# Altium integrated library Maxim Amplifiers and Comparators.IntLib: 420 symbols (part 12 of 16)
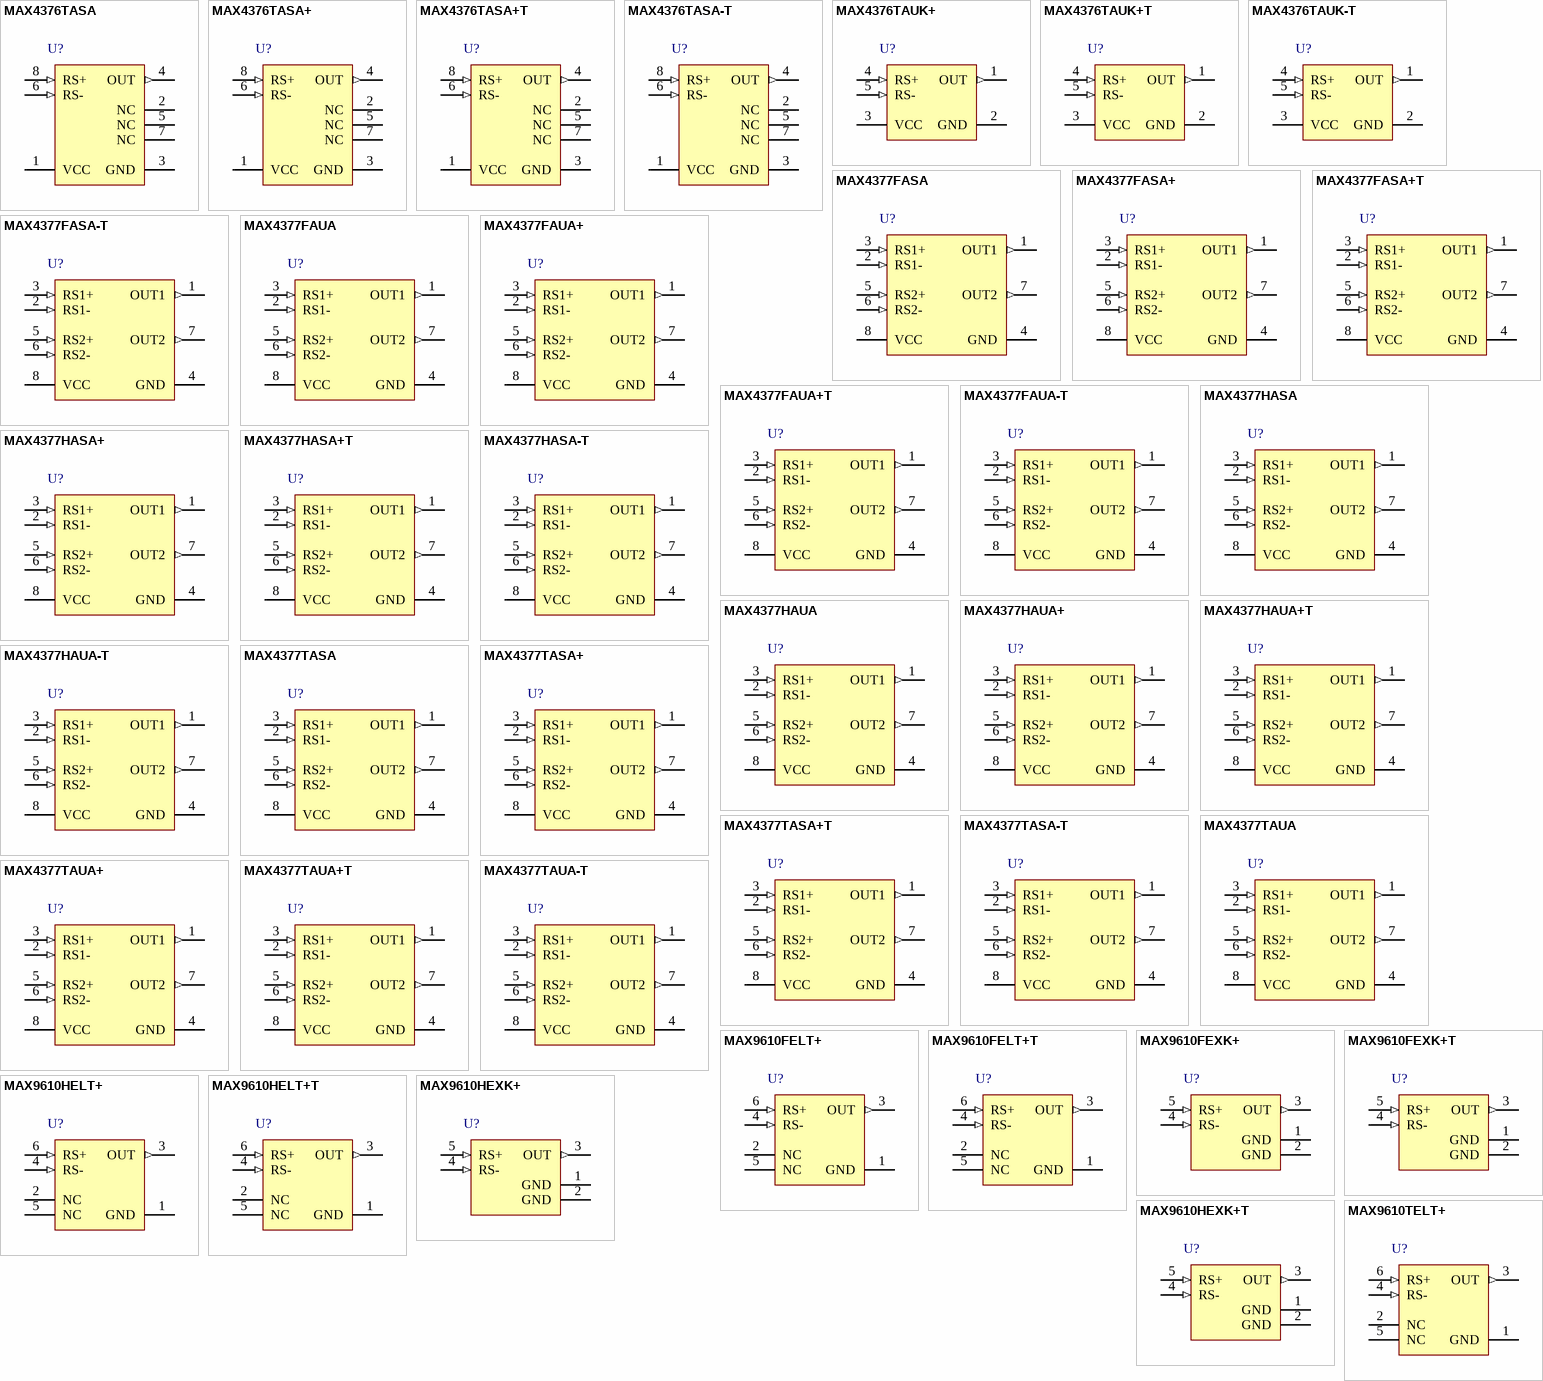
[diagram p21: symbols MAX4376TASA to MAX9610TELT+]

## MAX4377FASA
designator U?
Dual High-Side Current Sense Amplifier, 50 V / V Gain, -40 to 125 degC, 8-Pin SOIC (S8-2); PartNumber: MAX4377FASA; Bi-Dir. Curr. Sense: No; Gain: 20 V/V, 50 V/V ,100 V/V; Industry Qualified: Automotive - General; DatasheetVersion: Rev. 7; PackageVersion: Rev. D, 10/2012; PackageReference: S8-2; PackageDescription: 8-Pin Small-Outline IC, Narrow (0.15in) (S8-2), Body 4.90 x 3.90 mm, Pitch 1.27 mm; Supplier 1: Digi-Key; Supplier Part Number 1: MAX4377FASA-ND; Supplier 2: Mouser; Supplier Part Number 2: 700-MAX4377FASA-NR; Mounting Technology: Surface Mount; Code_JEDEC: MS012; ComponentLink1Description: Manufacturer URL; ComponentLink1URL: http://www.maximintegrated.com/; ComponentLink2Description: Datasheet; ComponentLink2URL: http://datasheets.maximintegrated.com/en/ds/MAX4376-MAX4378.pdf; ComponentLink3Description: Package Specification; ComponentLink3URL: http://pdfserv.maximintegrated.com/package_dwgs/21-0041.PDF
footprint MAXM-S8-2_N (SOIC, 8-Leads, Body 4.90x3.90mm, Pitch 1.27mm, IPC Medium Density)
footprint MAXM-S8-2_L (SOIC, 8-Leads, Body 4.90x3.90mm, Pitch 1.27mm, IPC High Density)
footprint MAXM-S8-2_M (SOIC, 8-Leads, Body 4.90x3.90mm, Pitch 1.27mm, IPC Low Density)
pins: 1 OUT1 (out) "Output Voltage. VOUT_ is proportional to the magnitude of the sense voltage (VRS+ - VRS-). VOUT_ is approximately zero when VRS - > VRS - + (no phase reversal).", 2 RS1- (in) "Load-side connection to the external sense resistor", 3 RS1+ (in) "Power connection to the external sense resistor", 4 GND (power) "Ground", 5 RS2+ (in) "Power connection to the external sense resistor", 6 RS2- (in) "Load-side connection to the external sense resistor", 7 OUT2 (out) "Output Voltage. VOUT_ is proportional to the magnitude of the sense voltage (VRS+ - VRS-). VOUT_ is approximately zero when VRS - > VRS - + (no phase reversal).", 8 VCC (power) "Supply Voltage"

## MAX4377FASA+
designator U?
Dual High-Side Current Sense Amplifier, 50 V / V Gain, -40 to 125 degC, 8-Pin SOIC (S8+2), Pb-Free; PartNumber: MAX4377FASA+; Bi-Dir. Curr. Sense: No; Gain: 20 V/V, 50 V/V ,100 V/V; Industry Qualified: Automotive - General; DatasheetVersion: Rev. 7; PackageVersion: Rev. D, 10/2012; PackageReference: S8+2; PackageDescription: 8-Pin Small-Outline IC, Narrow (0.15in) (S8+2), Body 4.90 x 3.90 mm, Pitch 1.27 mm; Supplier 1: Digi-Key; Supplier Part Number 1: MAX4377FASA+-ND; Supplier 2: Mouser; Supplier Part Number 2: 700-MAX4377FASA; Mounting Technology: Surface Mount; Code_JEDEC: MS012; ComponentLink1Description: Manufacturer URL; ComponentLink1URL: http://www.maximintegrated.com/; ComponentLink2Description: Datasheet; ComponentLink2URL: http://datasheets.maximintegrated.com/en/ds/MAX4376-MAX4378.pdf; ComponentLink3Description: Package Specification; ComponentLink3URL: http://pdfserv.maximintegrated.com/package_dwgs/21-0041.PDF
footprint MAXM-S8+2_N (SOIC, 8-Leads, Body 4.90x3.90mm, Pitch 1.27mm, IPC Medium Density)
footprint MAXM-S8+2_L (SOIC, 8-Leads, Body 4.90x3.90mm, Pitch 1.27mm, IPC High Density)
footprint MAXM-S8+2_M (SOIC, 8-Leads, Body 4.90x3.90mm, Pitch 1.27mm, IPC Low Density)
pins: 1 OUT1 (out) "Output Voltage. VOUT_ is proportional to the magnitude of the sense voltage (VRS+ - VRS-). VOUT_ is approximately zero when VRS - > VRS - + (no phase reversal).", 2 RS1- (in) "Load-side connection to the external sense resistor", 3 RS1+ (in) "Power connection to the external sense resistor", 4 GND (power) "Ground", 5 RS2+ (in) "Power connection to the external sense resistor", 6 RS2- (in) "Load-side connection to the external sense resistor", 7 OUT2 (out) "Output Voltage. VOUT_ is proportional to the magnitude of the sense voltage (VRS+ - VRS-). VOUT_ is approximately zero when VRS - > VRS - + (no phase reversal).", 8 VCC (power) "Supply Voltage"

## MAX4377FASA+T
designator U?
Dual High-Side Current Sense Amplifier, 50 V / V Gain, -40 to 125 degC, 8-Pin SOIC (S8+2), Pb-Free, Tape and Reel; PartNumber: MAX4377FASA+T; Bi-Dir. Curr. Sense: No; Gain: 20 V/V, 50 V/V ,100 V/V; Industry Qualified: Automotive - General; DatasheetVersion: Rev. 7; PackageVersion: Rev. D, 10/2012; PackageReference: S8+2; PackageDescription: 8-Pin Small-Outline IC, Narrow (0.15in) (S8+2), Body 4.90 x 3.90 mm, Pitch 1.27 mm; Supplier 1: Digi-Key; Supplier Part Number 1: MAX4377FASA+T-ND; Supplier 2: Mouser; Supplier Part Number 2: 700-MAX4377FASA+T; Mounting Technology: Surface Mount; Code_JEDEC: MS012; ComponentLink1Description: Manufacturer URL; ComponentLink1URL: http://www.maximintegrated.com/; ComponentLink2Description: Datasheet; ComponentLink2URL: http://datasheets.maximintegrated.com/en/ds/MAX4376-MAX4378.pdf; ComponentLink3Description: Package Specification; ComponentLink3URL: http://pdfserv.maximintegrated.com/package_dwgs/21-0041.PDF
footprint MAXM-S8+2_N (SOIC, 8-Leads, Body 4.90x3.90mm, Pitch 1.27mm, IPC Medium Density)
footprint MAXM-S8+2_L (SOIC, 8-Leads, Body 4.90x3.90mm, Pitch 1.27mm, IPC High Density)
footprint MAXM-S8+2_M (SOIC, 8-Leads, Body 4.90x3.90mm, Pitch 1.27mm, IPC Low Density)
pins: 1 OUT1 (out) "Output Voltage. VOUT_ is proportional to the magnitude of the sense voltage (VRS+ - VRS-). VOUT_ is approximately zero when VRS - > VRS - + (no phase reversal).", 2 RS1- (in) "Load-side connection to the external sense resistor", 3 RS1+ (in) "Power connection to the external sense resistor", 4 GND (power) "Ground", 5 RS2+ (in) "Power connection to the external sense resistor", 6 RS2- (in) "Load-side connection to the external sense resistor", 7 OUT2 (out) "Output Voltage. VOUT_ is proportional to the magnitude of the sense voltage (VRS+ - VRS-). VOUT_ is approximately zero when VRS - > VRS - + (no phase reversal).", 8 VCC (power) "Supply Voltage"

## MAX4377FASA-T
designator U?
Dual High-Side Current Sense Amplifier, 50 V / V Gain, -40 to 125 degC, 8-Pin SOIC (S8-2), Tape and Reel; PartNumber: MAX4377FASA-T; Bi-Dir. Curr. Sense: No; Gain: 20 V/V, 50 V/V ,100 V/V; Industry Qualified: Automotive - General; DatasheetVersion: Rev. 7; PackageVersion: Rev. D, 10/2012; PackageReference: S8-2; PackageDescription: 8-Pin Small-Outline IC, Narrow (0.15in) (S8-2), Body 4.90 x 3.90 mm, Pitch 1.27 mm; Supplier 1: Digi-Key; Supplier Part Number 1: MAX4377FASA-T-ND; Supplier 2: Mouser; Supplier Part Number 2: 700-MAX4377FASA-T-; Mounting Technology: Surface Mount; Code_JEDEC: MS012; ComponentLink1Description: Manufacturer URL; ComponentLink1URL: http://www.maximintegrated.com/; ComponentLink2Description: Datasheet; ComponentLink2URL: http://datasheets.maximintegrated.com/en/ds/MAX4376-MAX4378.pdf; ComponentLink3Description: Package Specification; ComponentLink3URL: http://pdfserv.maximintegrated.com/package_dwgs/21-0041.PDF
footprint MAXM-S8-2_N (SOIC, 8-Leads, Body 4.90x3.90mm, Pitch 1.27mm, IPC Medium Density)
footprint MAXM-S8-2_L (SOIC, 8-Leads, Body 4.90x3.90mm, Pitch 1.27mm, IPC High Density)
footprint MAXM-S8-2_M (SOIC, 8-Leads, Body 4.90x3.90mm, Pitch 1.27mm, IPC Low Density)
pins: 1 OUT1 (out) "Output Voltage. VOUT_ is proportional to the magnitude of the sense voltage (VRS+ - VRS-). VOUT_ is approximately zero when VRS - > VRS - + (no phase reversal).", 2 RS1- (in) "Load-side connection to the external sense resistor", 3 RS1+ (in) "Power connection to the external sense resistor", 4 GND (power) "Ground", 5 RS2+ (in) "Power connection to the external sense resistor", 6 RS2- (in) "Load-side connection to the external sense resistor", 7 OUT2 (out) "Output Voltage. VOUT_ is proportional to the magnitude of the sense voltage (VRS+ - VRS-). VOUT_ is approximately zero when VRS - > VRS - + (no phase reversal).", 8 VCC (power) "Supply Voltage"

## MAX4377FAUA
designator U?
Dual High-Side Current Sense Amplifier, 50 V / V Gain, -40 to 125 degC, 8-Pin SOP (U8-1); PartNumber: MAX4377FAUA; Bi-Dir. Curr. Sense: No; Gain: 20 V/V, 50 V/V ,100 V/V; Industry Qualified: Automotive - General; DatasheetVersion: Rev. 7; PackageVersion: Rev. L, 08/2009; PackageReference: U8-1; PackageDescription: 8-Pin Micro-MAX, Thin Shrink Small-Outline (U8-1), Body 3 x 3 mm, Pitch 0.65mm; Supplier 1: Digi-Key; Supplier Part Number 1: MAX4377FAUA-ND; Supplier 2: Mouser; Supplier Part Number 2: 700-MAX4377FAUA-NR; Mounting Technology: Surface Mount; Code_JEDEC: MO-187; ComponentLink1Description: Manufacturer URL; ComponentLink1URL: http://www.maximintegrated.com/; ComponentLink2Description: Datasheet; ComponentLink2URL: http://datasheets.maximintegrated.com/en/ds/MAX4376-MAX4378.pdf; ComponentLink3Description: Package Specification; ComponentLink3URL: http://pdfserv.maximintegrated.com/package_dwgs/21-0036.PDF
footprint MAXM-U8-1_N (SOP, 8-Leads, Body 3x3mm, Pitch 0.65mm, IPC Medium Density)
footprint MAXM-U8-1_L (SOP, 8-Leads, Body 3x3mm, Pitch 0.65mm, IPC High Density)
footprint MAXM-U8-1_M (SOP, 8-Leads, Body 3x3mm, Pitch 0.65mm, IPC Low Density)
pins: 1 OUT1 (out) "Output Voltage. VOUT_ is proportional to the magnitude of the sense voltage (VRS+ - VRS-). VOUT_ is approximately zero when VRS - > VRS - + (no phase reversal).", 2 RS1- (in) "Load-side connection to the external sense resistor", 3 RS1+ (in) "Power connection to the external sense resistor", 4 GND (power) "Ground", 5 RS2+ (in) "Power connection to the external sense resistor", 6 RS2- (in) "Load-side connection to the external sense resistor", 7 OUT2 (out) "Output Voltage. VOUT_ is proportional to the magnitude of the sense voltage (VRS+ - VRS-). VOUT_ is approximately zero when VRS - > VRS - + (no phase reversal).", 8 VCC (power) "Supply Voltage"

## MAX4377FAUA+
designator U?
Dual High-Side Current Sense Amplifier, 50 V / V Gain, -40 to 125 degC, 8-Pin SOP (U8+1), Pb-Free; PartNumber: MAX4377FAUA+; Bi-Dir. Curr. Sense: No; Gain: 20 V/V, 50 V/V ,100 V/V; Industry Qualified: Automotive - General; DatasheetVersion: Rev. 7; PackageVersion: Rev. L, 08/2009; PackageReference: U8+1; PackageDescription: 8-Pin Micro-MAX, Thin Shrink Small-Outline (U8+1), Body 3 x 3 mm, Pitch 0.65 mm; Supplier 1: Digi-Key; Supplier Part Number 1: MAX4377FAUA+-ND; Supplier 2: Mouser; Supplier Part Number 2: 700-MAX4377FAUA; Mounting Technology: Surface Mount; Code_JEDEC: MO-187; ComponentLink1Description: Manufacturer URL; ComponentLink1URL: http://www.maximintegrated.com/; ComponentLink2Description: Datasheet; ComponentLink2URL: http://datasheets.maximintegrated.com/en/ds/MAX4376-MAX4378.pdf; ComponentLink3Description: Package Specification; ComponentLink3URL: http://pdfserv.maximintegrated.com/package_dwgs/21-0036.PDF
footprint MAXM-U8+1_N (SOP, 8-Leads, Body 3x3mm, Pitch 0.65mm, IPC Medium Density)
footprint MAXM-U8+1_L (SOP, 8-Leads, Body 3x3mm, Pitch 0.65mm, IPC High Density)
footprint MAXM-U8+1_M (SOP, 8-Leads, Body 3x3mm, Pitch 0.65mm, IPC Low Density)
pins: 1 OUT1 (out) "Output Voltage. VOUT_ is proportional to the magnitude of the sense voltage (VRS+ - VRS-). VOUT_ is approximately zero when VRS - > VRS - + (no phase reversal).", 2 RS1- (in) "Load-side connection to the external sense resistor", 3 RS1+ (in) "Power connection to the external sense resistor", 4 GND (power) "Ground", 5 RS2+ (in) "Power connection to the external sense resistor", 6 RS2- (in) "Load-side connection to the external sense resistor", 7 OUT2 (out) "Output Voltage. VOUT_ is proportional to the magnitude of the sense voltage (VRS+ - VRS-). VOUT_ is approximately zero when VRS - > VRS - + (no phase reversal).", 8 VCC (power) "Supply Voltage"

## MAX4377FAUA+T
designator U?
Dual High-Side Current Sense Amplifier, 50 V / V Gain, -40 to 125 degC, 8-Pin SOP (U8+1), Pb-Free, Tape and Reel; PartNumber: MAX4377FAUA+T; Bi-Dir. Curr. Sense: No; Gain: 20 V/V, 50 V/V ,100 V/V; Industry Qualified: Automotive - General; DatasheetVersion: Rev. 7; PackageVersion: Rev. L, 08/2009; PackageReference: U8+1; PackageDescription: 8-Pin Micro-MAX, Thin Shrink Small-Outline (U8+1), Body 3 x 3 mm, Pitch 0.65 mm; Supplier 1: Digi-Key; Supplier Part Number 1: MAX4377FAUA+T-ND; Supplier 2: Mouser; Supplier Part Number 2: 700-MAX4377FAUA+T; Mounting Technology: Surface Mount; Code_JEDEC: MO-187; ComponentLink1Description: Manufacturer URL; ComponentLink1URL: http://www.maximintegrated.com/; ComponentLink2Description: Datasheet; ComponentLink2URL: http://datasheets.maximintegrated.com/en/ds/MAX4376-MAX4378.pdf; ComponentLink3Description: Package Specification; ComponentLink3URL: http://pdfserv.maximintegrated.com/package_dwgs/21-0036.PDF
footprint MAXM-U8+1_N (SOP, 8-Leads, Body 3x3mm, Pitch 0.65mm, IPC Medium Density)
footprint MAXM-U8+1_L (SOP, 8-Leads, Body 3x3mm, Pitch 0.65mm, IPC High Density)
footprint MAXM-U8+1_M (SOP, 8-Leads, Body 3x3mm, Pitch 0.65mm, IPC Low Density)
pins: 1 OUT1 (out) "Output Voltage. VOUT_ is proportional to the magnitude of the sense voltage (VRS+ - VRS-). VOUT_ is approximately zero when VRS - > VRS - + (no phase reversal).", 2 RS1- (in) "Load-side connection to the external sense resistor", 3 RS1+ (in) "Power connection to the external sense resistor", 4 GND (power) "Ground", 5 RS2+ (in) "Power connection to the external sense resistor", 6 RS2- (in) "Load-side connection to the external sense resistor", 7 OUT2 (out) "Output Voltage. VOUT_ is proportional to the magnitude of the sense voltage (VRS+ - VRS-). VOUT_ is approximately zero when VRS - > VRS - + (no phase reversal).", 8 VCC (power) "Supply Voltage"

## MAX4377FAUA-T
designator U?
Dual High-Side Current Sense Amplifier, 50 V / V Gain, -40 to 125 degC, 8-Pin SOP (U8-1), Tape and Reel; PartNumber: MAX4377FAUA-T; Bi-Dir. Curr. Sense: No; Gain: 20 V/V, 50 V/V ,100 V/V; Industry Qualified: Automotive - General; DatasheetVersion: Rev. 7; PackageVersion: Rev. L, 08/2009; PackageReference: U8-1; PackageDescription: 8-Pin Micro-MAX, Thin Shrink Small-Outline (U8-1), Body 3 x 3 mm, Pitch 0.65mm; Supplier 1: Digi-Key; Supplier Part Number 1: MAX4377FAUA-T-ND; Supplier 2: Mouser; Supplier Part Number 2: 700-MAX4377FAUA-T-; Mounting Technology: Surface Mount; Code_JEDEC: MO-187; ComponentLink1Description: Manufacturer URL; ComponentLink1URL: http://www.maximintegrated.com/; ComponentLink2Description: Datasheet; ComponentLink2URL: http://datasheets.maximintegrated.com/en/ds/MAX4376-MAX4378.pdf; ComponentLink3Description: Package Specification; ComponentLink3URL: http://pdfserv.maximintegrated.com/package_dwgs/21-0036.PDF
footprint MAXM-U8-1_N (SOP, 8-Leads, Body 3x3mm, Pitch 0.65mm, IPC Medium Density)
footprint MAXM-U8-1_L (SOP, 8-Leads, Body 3x3mm, Pitch 0.65mm, IPC High Density)
footprint MAXM-U8-1_M (SOP, 8-Leads, Body 3x3mm, Pitch 0.65mm, IPC Low Density)
pins: 1 OUT1 (out) "Output Voltage. VOUT_ is proportional to the magnitude of the sense voltage (VRS+ - VRS-). VOUT_ is approximately zero when VRS - > VRS - + (no phase reversal).", 2 RS1- (in) "Load-side connection to the external sense resistor", 3 RS1+ (in) "Power connection to the external sense resistor", 4 GND (power) "Ground", 5 RS2+ (in) "Power connection to the external sense resistor", 6 RS2- (in) "Load-side connection to the external sense resistor", 7 OUT2 (out) "Output Voltage. VOUT_ is proportional to the magnitude of the sense voltage (VRS+ - VRS-). VOUT_ is approximately zero when VRS - > VRS - + (no phase reversal).", 8 VCC (power) "Supply Voltage"

## MAX4377HASA
designator U?
Dual High-Side Current Sense Amplifier, 100 V / V Gain, -40 to 125 degC, 8-Pin SOIC (S8-2); PartNumber: MAX4377HASA; Bi-Dir. Curr. Sense: No; Gain: 20 V/V, 50 V/V ,100 V/V; Industry Qualified: Automotive - General; DatasheetVersion: Rev. 7; PackageVersion: Rev. D, 10/2012; PackageReference: S8-2; PackageDescription: 8-Pin Small-Outline IC, Narrow (0.15in) (S8-2), Body 4.90 x 3.90 mm, Pitch 1.27 mm; Supplier 1: Digi-Key; Supplier Part Number 1: MAX4377HASA-ND; Supplier 2: Mouser; Supplier Part Number 2: 700-MAX4377HASA-NR; Mounting Technology: Surface Mount; Code_JEDEC: MS012; ComponentLink1Description: Manufacturer URL; ComponentLink1URL: http://www.maximintegrated.com/; ComponentLink2Description: Datasheet; ComponentLink2URL: http://datasheets.maximintegrated.com/en/ds/MAX4376-MAX4378.pdf; ComponentLink3Description: Package Specification; ComponentLink3URL: http://pdfserv.maximintegrated.com/package_dwgs/21-0041.PDF
footprint MAXM-S8-2_N (SOIC, 8-Leads, Body 4.90x3.90mm, Pitch 1.27mm, IPC Medium Density)
footprint MAXM-S8-2_L (SOIC, 8-Leads, Body 4.90x3.90mm, Pitch 1.27mm, IPC High Density)
footprint MAXM-S8-2_M (SOIC, 8-Leads, Body 4.90x3.90mm, Pitch 1.27mm, IPC Low Density)
pins: 1 OUT1 (out) "Output Voltage. VOUT_ is proportional to the magnitude of the sense voltage (VRS+ - VRS-). VOUT_ is approximately zero when VRS - > VRS - + (no phase reversal).", 2 RS1- (in) "Load-side connection to the external sense resistor", 3 RS1+ (in) "Power connection to the external sense resistor", 4 GND (power) "Ground", 5 RS2+ (in) "Power connection to the external sense resistor", 6 RS2- (in) "Load-side connection to the external sense resistor", 7 OUT2 (out) "Output Voltage. VOUT_ is proportional to the magnitude of the sense voltage (VRS+ - VRS-). VOUT_ is approximately zero when VRS - > VRS - + (no phase reversal).", 8 VCC (power) "Supply Voltage"

## MAX4377HASA+
designator U?
Dual High-Side Current Sense Amplifier, 100 V / V Gain, -40 to 125 degC, 8-Pin SOIC (S8+2), Pb-Free; PartNumber: MAX4377HASA+; Bi-Dir. Curr. Sense: No; Gain: 20 V/V, 50 V/V ,100 V/V; Industry Qualified: Automotive - General; DatasheetVersion: Rev. 7; PackageVersion: Rev. D, 10/2012; PackageReference: S8+2; PackageDescription: 8-Pin Small-Outline IC, Narrow (0.15in) (S8+2), Body 4.90 x 3.90 mm, Pitch 1.27 mm; Supplier 1: Digi-Key; Supplier Part Number 1: MAX4377HASA+-ND; Supplier 2: Mouser; Supplier Part Number 2: 700-MAX4377HASA; Mounting Technology: Surface Mount; Code_JEDEC: MS012; ComponentLink1Description: Manufacturer URL; ComponentLink1URL: http://www.maximintegrated.com/; ComponentLink2Description: Datasheet; ComponentLink2URL: http://datasheets.maximintegrated.com/en/ds/MAX4376-MAX4378.pdf; ComponentLink3Description: Package Specification; ComponentLink3URL: http://pdfserv.maximintegrated.com/package_dwgs/21-0041.PDF
footprint MAXM-S8+2_N (SOIC, 8-Leads, Body 4.90x3.90mm, Pitch 1.27mm, IPC Medium Density)
footprint MAXM-S8+2_L (SOIC, 8-Leads, Body 4.90x3.90mm, Pitch 1.27mm, IPC High Density)
footprint MAXM-S8+2_M (SOIC, 8-Leads, Body 4.90x3.90mm, Pitch 1.27mm, IPC Low Density)
pins: 1 OUT1 (out) "Output Voltage. VOUT_ is proportional to the magnitude of the sense voltage (VRS+ - VRS-). VOUT_ is approximately zero when VRS - > VRS - + (no phase reversal).", 2 RS1- (in) "Load-side connection to the external sense resistor", 3 RS1+ (in) "Power connection to the external sense resistor", 4 GND (power) "Ground", 5 RS2+ (in) "Power connection to the external sense resistor", 6 RS2- (in) "Load-side connection to the external sense resistor", 7 OUT2 (out) "Output Voltage. VOUT_ is proportional to the magnitude of the sense voltage (VRS+ - VRS-). VOUT_ is approximately zero when VRS - > VRS - + (no phase reversal).", 8 VCC (power) "Supply Voltage"

## MAX4377HASA+T
designator U?
Dual High-Side Current Sense Amplifier, 100 V / V Gain, -40 to 125 degC, 8-Pin SOIC (S8+2), Pb-Free, Tape and Reel; PartNumber: MAX4377HASA+T; Bi-Dir. Curr. Sense: No; Gain: 20 V/V, 50 V/V ,100 V/V; Industry Qualified: Automotive - General; DatasheetVersion: Rev. 7; PackageVersion: Rev. D, 10/2012; PackageReference: S8+2; PackageDescription: 8-Pin Small-Outline IC, Narrow (0.15in) (S8+2), Body 4.90 x 3.90 mm, Pitch 1.27 mm; Supplier 1: Digi-Key; Supplier Part Number 1: MAX4377HASA+T-ND; Supplier 2: Mouser; Supplier Part Number 2: 700-MAX4377HASA+T; Mounting Technology: Surface Mount; Code_JEDEC: MS012; ComponentLink1Description: Manufacturer URL; ComponentLink1URL: http://www.maximintegrated.com/; ComponentLink2Description: Datasheet; ComponentLink2URL: http://datasheets.maximintegrated.com/en/ds/MAX4376-MAX4378.pdf; ComponentLink3Description: Package Specification; ComponentLink3URL: http://pdfserv.maximintegrated.com/package_dwgs/21-0041.PDF
footprint MAXM-S8+2_N (SOIC, 8-Leads, Body 4.90x3.90mm, Pitch 1.27mm, IPC Medium Density)
footprint MAXM-S8+2_L (SOIC, 8-Leads, Body 4.90x3.90mm, Pitch 1.27mm, IPC High Density)
footprint MAXM-S8+2_M (SOIC, 8-Leads, Body 4.90x3.90mm, Pitch 1.27mm, IPC Low Density)
pins: 1 OUT1 (out) "Output Voltage. VOUT_ is proportional to the magnitude of the sense voltage (VRS+ - VRS-). VOUT_ is approximately zero when VRS - > VRS - + (no phase reversal).", 2 RS1- (in) "Load-side connection to the external sense resistor", 3 RS1+ (in) "Power connection to the external sense resistor", 4 GND (power) "Ground", 5 RS2+ (in) "Power connection to the external sense resistor", 6 RS2- (in) "Load-side connection to the external sense resistor", 7 OUT2 (out) "Output Voltage. VOUT_ is proportional to the magnitude of the sense voltage (VRS+ - VRS-). VOUT_ is approximately zero when VRS - > VRS - + (no phase reversal).", 8 VCC (power) "Supply Voltage"

## MAX4377HASA-T
designator U?
Dual High-Side Current Sense Amplifier, 100 V / V Gain, -40 to 125 degC, 8-Pin SOIC (S8-2), Tape and Reel; PartNumber: MAX4377HASA-T; Bi-Dir. Curr. Sense: No; Gain: 20 V/V, 50 V/V ,100 V/V; Industry Qualified: Automotive - General; DatasheetVersion: Rev. 7; PackageVersion: Rev. D, 10/2012; PackageReference: S8-2; PackageDescription: 8-Pin Small-Outline IC, Narrow (0.15in) (S8-2), Body 4.90 x 3.90 mm, Pitch 1.27 mm; Supplier 1: Digi-Key; Supplier Part Number 1: MAX4377HASA-T-ND; Supplier 2: Mouser; Supplier Part Number 2: 700-MAX4377HASA-T-; Mounting Technology: Surface Mount; Code_JEDEC: MS012; ComponentLink1Description: Manufacturer URL; ComponentLink1URL: http://www.maximintegrated.com/; ComponentLink2Description: Datasheet; ComponentLink2URL: http://datasheets.maximintegrated.com/en/ds/MAX4376-MAX4378.pdf; ComponentLink3Description: Package Specification; ComponentLink3URL: http://pdfserv.maximintegrated.com/package_dwgs/21-0041.PDF
footprint MAXM-S8-2_N (SOIC, 8-Leads, Body 4.90x3.90mm, Pitch 1.27mm, IPC Medium Density)
footprint MAXM-S8-2_L (SOIC, 8-Leads, Body 4.90x3.90mm, Pitch 1.27mm, IPC High Density)
footprint MAXM-S8-2_M (SOIC, 8-Leads, Body 4.90x3.90mm, Pitch 1.27mm, IPC Low Density)
pins: 1 OUT1 (out) "Output Voltage. VOUT_ is proportional to the magnitude of the sense voltage (VRS+ - VRS-). VOUT_ is approximately zero when VRS - > VRS - + (no phase reversal).", 2 RS1- (in) "Load-side connection to the external sense resistor", 3 RS1+ (in) "Power connection to the external sense resistor", 4 GND (power) "Ground", 5 RS2+ (in) "Power connection to the external sense resistor", 6 RS2- (in) "Load-side connection to the external sense resistor", 7 OUT2 (out) "Output Voltage. VOUT_ is proportional to the magnitude of the sense voltage (VRS+ - VRS-). VOUT_ is approximately zero when VRS - > VRS - + (no phase reversal).", 8 VCC (power) "Supply Voltage"

## MAX4377HAUA
designator U?
Dual High-Side Current Sense Amplifier, 100 V / V Gain, -40 to 125 degC, 8-Pin SOP (U8-1); PartNumber: MAX4377HAUA; Bi-Dir. Curr. Sense: No; Gain: 20 V/V, 50 V/V ,100 V/V; Industry Qualified: Automotive - General; DatasheetVersion: Rev. 7; PackageVersion: Rev. L, 08/2009; PackageReference: U8-1; PackageDescription: 8-Pin Micro-MAX, Thin Shrink Small-Outline (U8-1), Body 3 x 3 mm, Pitch 0.65mm; Supplier 1: Mouser; Supplier Part Number 1: N/A; Mounting Technology: Surface Mount; Code_JEDEC: MO-187; ComponentLink1Description: Manufacturer URL; ComponentLink1URL: http://www.maximintegrated.com/; ComponentLink2Description: Datasheet; ComponentLink2URL: http://datasheets.maximintegrated.com/en/ds/MAX4376-MAX4378.pdf; ComponentLink3Description: Package Specification; ComponentLink3URL: http://pdfserv.maximintegrated.com/package_dwgs/21-0036.PDF
footprint MAXM-U8-1_N (SOP, 8-Leads, Body 3x3mm, Pitch 0.65mm, IPC Medium Density)
footprint MAXM-U8-1_L (SOP, 8-Leads, Body 3x3mm, Pitch 0.65mm, IPC High Density)
footprint MAXM-U8-1_M (SOP, 8-Leads, Body 3x3mm, Pitch 0.65mm, IPC Low Density)
pins: 1 OUT1 (out) "Output Voltage. VOUT_ is proportional to the magnitude of the sense voltage (VRS+ - VRS-). VOUT_ is approximately zero when VRS - > VRS - + (no phase reversal).", 2 RS1- (in) "Load-side connection to the external sense resistor", 3 RS1+ (in) "Power connection to the external sense resistor", 4 GND (power) "Ground", 5 RS2+ (in) "Power connection to the external sense resistor", 6 RS2- (in) "Load-side connection to the external sense resistor", 7 OUT2 (out) "Output Voltage. VOUT_ is proportional to the magnitude of the sense voltage (VRS+ - VRS-). VOUT_ is approximately zero when VRS - > VRS - + (no phase reversal).", 8 VCC (power) "Supply Voltage"

## MAX4377HAUA+
designator U?
Dual High-Side Current Sense Amplifier, 100 V / V Gain, -40 to 125 degC, 8-Pin SOP (U8+1), Pb-Free; PartNumber: MAX4377HAUA+; Bi-Dir. Curr. Sense: No; Gain: 20 V/V, 50 V/V ,100 V/V; Industry Qualified: Automotive - General; DatasheetVersion: Rev. 7; PackageVersion: Rev. L, 08/2009; PackageReference: U8+1; PackageDescription: 8-Pin Micro-MAX, Thin Shrink Small-Outline (U8+1), Body 3 x 3 mm, Pitch 0.65 mm; Supplier 1: Digi-Key; Supplier Part Number 1: MAX4377HAUA+-ND; Supplier 2: Mouser; Supplier Part Number 2: 700-MAX4377HAUA; Mounting Technology: Surface Mount; Code_JEDEC: MO-187; ComponentLink1Description: Manufacturer URL; ComponentLink1URL: http://www.maximintegrated.com/; ComponentLink2Description: Datasheet; ComponentLink2URL: http://datasheets.maximintegrated.com/en/ds/MAX4376-MAX4378.pdf; ComponentLink3Description: Package Specification; ComponentLink3URL: http://pdfserv.maximintegrated.com/package_dwgs/21-0036.PDF
footprint MAXM-U8+1_N (SOP, 8-Leads, Body 3x3mm, Pitch 0.65mm, IPC Medium Density)
footprint MAXM-U8+1_L (SOP, 8-Leads, Body 3x3mm, Pitch 0.65mm, IPC High Density)
footprint MAXM-U8+1_M (SOP, 8-Leads, Body 3x3mm, Pitch 0.65mm, IPC Low Density)
pins: 1 OUT1 (out) "Output Voltage. VOUT_ is proportional to the magnitude of the sense voltage (VRS+ - VRS-). VOUT_ is approximately zero when VRS - > VRS - + (no phase reversal).", 2 RS1- (in) "Load-side connection to the external sense resistor", 3 RS1+ (in) "Power connection to the external sense resistor", 4 GND (power) "Ground", 5 RS2+ (in) "Power connection to the external sense resistor", 6 RS2- (in) "Load-side connection to the external sense resistor", 7 OUT2 (out) "Output Voltage. VOUT_ is proportional to the magnitude of the sense voltage (VRS+ - VRS-). VOUT_ is approximately zero when VRS - > VRS - + (no phase reversal).", 8 VCC (power) "Supply Voltage"

## MAX4377HAUA+T
designator U?
Dual High-Side Current Sense Amplifier, 100 V / V Gain, -40 to 125 degC, 8-Pin SOP (U8+1), Pb-Free, Tape and Reel; PartNumber: MAX4377HAUA+T; Bi-Dir. Curr. Sense: No; Gain: 20 V/V, 50 V/V ,100 V/V; Industry Qualified: Automotive - General; DatasheetVersion: Rev. 7; PackageVersion: Rev. L, 08/2009; PackageReference: U8+1; PackageDescription: 8-Pin Micro-MAX, Thin Shrink Small-Outline (U8+1), Body 3 x 3 mm, Pitch 0.65 mm; Supplier 1: Digi-Key; Supplier Part Number 1: MAX4377HAUA+T-ND; Supplier 2: Mouser; Supplier Part Number 2: 700-MAX4377HAUA+T; Mounting Technology: Surface Mount; Code_JEDEC: MO-187; ComponentLink1Description: Manufacturer URL; ComponentLink1URL: http://www.maximintegrated.com/; ComponentLink2Description: Datasheet; ComponentLink2URL: http://datasheets.maximintegrated.com/en/ds/MAX4376-MAX4378.pdf; ComponentLink3Description: Package Specification; ComponentLink3URL: http://pdfserv.maximintegrated.com/package_dwgs/21-0036.PDF
footprint MAXM-U8+1_N (SOP, 8-Leads, Body 3x3mm, Pitch 0.65mm, IPC Medium Density)
footprint MAXM-U8+1_L (SOP, 8-Leads, Body 3x3mm, Pitch 0.65mm, IPC High Density)
footprint MAXM-U8+1_M (SOP, 8-Leads, Body 3x3mm, Pitch 0.65mm, IPC Low Density)
pins: 1 OUT1 (out) "Output Voltage. VOUT_ is proportional to the magnitude of the sense voltage (VRS+ - VRS-). VOUT_ is approximately zero when VRS - > VRS - + (no phase reversal).", 2 RS1- (in) "Load-side connection to the external sense resistor", 3 RS1+ (in) "Power connection to the external sense resistor", 4 GND (power) "Ground", 5 RS2+ (in) "Power connection to the external sense resistor", 6 RS2- (in) "Load-side connection to the external sense resistor", 7 OUT2 (out) "Output Voltage. VOUT_ is proportional to the magnitude of the sense voltage (VRS+ - VRS-). VOUT_ is approximately zero when VRS - > VRS - + (no phase reversal).", 8 VCC (power) "Supply Voltage"

## MAX4377HAUA-T
designator U?
Dual High-Side Current Sense Amplifier, 100 V / V Gain, -40 to 125 degC, 8-Pin SOP (U8-1), Tape and Reel; PartNumber: MAX4377HAUA-T; Bi-Dir. Curr. Sense: No; Gain: 20 V/V, 50 V/V ,100 V/V; Industry Qualified: Automotive - General; DatasheetVersion: Rev. 7; PackageVersion: Rev. L, 08/2009; PackageReference: U8-1; PackageDescription: 8-Pin Micro-MAX, Thin Shrink Small-Outline (U8-1), Body 3 x 3 mm, Pitch 0.65mm; Supplier 1: Mouser; Supplier Part Number 1: N/A; Mounting Technology: Surface Mount; Code_JEDEC: MO-187; ComponentLink1Description: Manufacturer URL; ComponentLink1URL: http://www.maximintegrated.com/; ComponentLink2Description: Datasheet; ComponentLink2URL: http://datasheets.maximintegrated.com/en/ds/MAX4376-MAX4378.pdf; ComponentLink3Description: Package Specification; ComponentLink3URL: http://pdfserv.maximintegrated.com/package_dwgs/21-0036.PDF
footprint MAXM-U8-1_N (SOP, 8-Leads, Body 3x3mm, Pitch 0.65mm, IPC Medium Density)
footprint MAXM-U8-1_L (SOP, 8-Leads, Body 3x3mm, Pitch 0.65mm, IPC High Density)
footprint MAXM-U8-1_M (SOP, 8-Leads, Body 3x3mm, Pitch 0.65mm, IPC Low Density)
pins: 1 OUT1 (out) "Output Voltage. VOUT_ is proportional to the magnitude of the sense voltage (VRS+ - VRS-). VOUT_ is approximately zero when VRS - > VRS - + (no phase reversal).", 2 RS1- (in) "Load-side connection to the external sense resistor", 3 RS1+ (in) "Power connection to the external sense resistor", 4 GND (power) "Ground", 5 RS2+ (in) "Power connection to the external sense resistor", 6 RS2- (in) "Load-side connection to the external sense resistor", 7 OUT2 (out) "Output Voltage. VOUT_ is proportional to the magnitude of the sense voltage (VRS+ - VRS-). VOUT_ is approximately zero when VRS - > VRS - + (no phase reversal).", 8 VCC (power) "Supply Voltage"

## MAX4377TASA
designator U?
Dual High-Side Current Sense Amplifier, 20 V / V Gain, -40 to 125 degC, 8-Pin SOIC (S8-2); PartNumber: MAX4377TASA; Bi-Dir. Curr. Sense: No; Gain: 20 V/V, 50 V/V ,100 V/V; Industry Qualified: Automotive - General; DatasheetVersion: Rev. 7; PackageVersion: Rev. D, 10/2012; PackageReference: S8-2; PackageDescription: 8-Pin Small-Outline IC, Narrow (0.15in) (S8-2), Body 4.90 x 3.90 mm, Pitch 1.27 mm; Supplier 1: Mouser; Supplier Part Number 1: N/A; Mounting Technology: Surface Mount; Code_JEDEC: MS012; ComponentLink1Description: Manufacturer URL; ComponentLink1URL: http://www.maximintegrated.com/; ComponentLink2Description: Datasheet; ComponentLink2URL: http://datasheets.maximintegrated.com/en/ds/MAX4376-MAX4378.pdf; ComponentLink3Description: Package Specification; ComponentLink3URL: http://pdfserv.maximintegrated.com/package_dwgs/21-0041.PDF
footprint MAXM-S8-2_N (SOIC, 8-Leads, Body 4.90x3.90mm, Pitch 1.27mm, IPC Medium Density)
footprint MAXM-S8-2_L (SOIC, 8-Leads, Body 4.90x3.90mm, Pitch 1.27mm, IPC High Density)
footprint MAXM-S8-2_M (SOIC, 8-Leads, Body 4.90x3.90mm, Pitch 1.27mm, IPC Low Density)
pins: 1 OUT1 (out) "Output Voltage. VOUT_ is proportional to the magnitude of the sense voltage (VRS+ - VRS-). VOUT_ is approximately zero when VRS - > VRS - + (no phase reversal).", 2 RS1- (in) "Load-side connection to the external sense resistor", 3 RS1+ (in) "Power connection to the external sense resistor", 4 GND (power) "Ground", 5 RS2+ (in) "Power connection to the external sense resistor", 6 RS2- (in) "Load-side connection to the external sense resistor", 7 OUT2 (out) "Output Voltage. VOUT_ is proportional to the magnitude of the sense voltage (VRS+ - VRS-). VOUT_ is approximately zero when VRS - > VRS - + (no phase reversal).", 8 VCC (power) "Supply Voltage"

## MAX4377TASA+
designator U?
Dual High-Side Current Sense Amplifier, 20 V / V Gain, -40 to 125 degC, 8-Pin SOIC (S8+2), Pb-Free; PartNumber: MAX4377TASA+; Bi-Dir. Curr. Sense: No; Gain: 20 V/V, 50 V/V ,100 V/V; Industry Qualified: Automotive - General; DatasheetVersion: Rev. 7; PackageVersion: Rev. D, 10/2012; PackageReference: S8+2; PackageDescription: 8-Pin Small-Outline IC, Narrow (0.15in) (S8+2), Body 4.90 x 3.90 mm, Pitch 1.27 mm; Supplier 1: Digi-Key; Supplier Part Number 1: MAX4377TASA+-ND; Supplier 2: Mouser; Supplier Part Number 2: 700-MAX4377TASA; Mounting Technology: Surface Mount; Code_JEDEC: MS012; ComponentLink1Description: Manufacturer URL; ComponentLink1URL: http://www.maximintegrated.com/; ComponentLink2Description: Datasheet; ComponentLink2URL: http://datasheets.maximintegrated.com/en/ds/MAX4376-MAX4378.pdf; ComponentLink3Description: Package Specification; ComponentLink3URL: http://pdfserv.maximintegrated.com/package_dwgs/21-0041.PDF
footprint MAXM-S8+2_N (SOIC, 8-Leads, Body 4.90x3.90mm, Pitch 1.27mm, IPC Medium Density)
footprint MAXM-S8+2_L (SOIC, 8-Leads, Body 4.90x3.90mm, Pitch 1.27mm, IPC High Density)
footprint MAXM-S8+2_M (SOIC, 8-Leads, Body 4.90x3.90mm, Pitch 1.27mm, IPC Low Density)
pins: 1 OUT1 (out) "Output Voltage. VOUT_ is proportional to the magnitude of the sense voltage (VRS+ - VRS-). VOUT_ is approximately zero when VRS - > VRS - + (no phase reversal).", 2 RS1- (in) "Load-side connection to the external sense resistor", 3 RS1+ (in) "Power connection to the external sense resistor", 4 GND (power) "Ground", 5 RS2+ (in) "Power connection to the external sense resistor", 6 RS2- (in) "Load-side connection to the external sense resistor", 7 OUT2 (out) "Output Voltage. VOUT_ is proportional to the magnitude of the sense voltage (VRS+ - VRS-). VOUT_ is approximately zero when VRS - > VRS - + (no phase reversal).", 8 VCC (power) "Supply Voltage"

## MAX4377TASA+T
designator U?
Dual High-Side Current Sense Amplifier, 20 V / V Gain, -40 to 125 degC, 8-Pin SOIC (S8+2), Pb-Free, Tape and Reel; PartNumber: MAX4377TASA+T; Bi-Dir. Curr. Sense: No; Gain: 20 V/V, 50 V/V ,100 V/V; Industry Qualified: Automotive - General; DatasheetVersion: Rev. 7; PackageVersion: Rev. D, 10/2012; PackageReference: S8+2; PackageDescription: 8-Pin Small-Outline IC, Narrow (0.15in) (S8+2), Body 4.90 x 3.90 mm, Pitch 1.27 mm; Supplier 1: Digi-Key; Supplier Part Number 1: MAX4377TASA+T-ND; Supplier 2: Mouser; Supplier Part Number 2: 700-MAX4377TASA+T; Mounting Technology: Surface Mount; Code_JEDEC: MS012; ComponentLink1Description: Manufacturer URL; ComponentLink1URL: http://www.maximintegrated.com/; ComponentLink2Description: Datasheet; ComponentLink2URL: http://datasheets.maximintegrated.com/en/ds/MAX4376-MAX4378.pdf; ComponentLink3Description: Package Specification; ComponentLink3URL: http://pdfserv.maximintegrated.com/package_dwgs/21-0041.PDF
footprint MAXM-S8+2_N (SOIC, 8-Leads, Body 4.90x3.90mm, Pitch 1.27mm, IPC Medium Density)
footprint MAXM-S8+2_L (SOIC, 8-Leads, Body 4.90x3.90mm, Pitch 1.27mm, IPC High Density)
footprint MAXM-S8+2_M (SOIC, 8-Leads, Body 4.90x3.90mm, Pitch 1.27mm, IPC Low Density)
pins: 1 OUT1 (out) "Output Voltage. VOUT_ is proportional to the magnitude of the sense voltage (VRS+ - VRS-). VOUT_ is approximately zero when VRS - > VRS - + (no phase reversal).", 2 RS1- (in) "Load-side connection to the external sense resistor", 3 RS1+ (in) "Power connection to the external sense resistor", 4 GND (power) "Ground", 5 RS2+ (in) "Power connection to the external sense resistor", 6 RS2- (in) "Load-side connection to the external sense resistor", 7 OUT2 (out) "Output Voltage. VOUT_ is proportional to the magnitude of the sense voltage (VRS+ - VRS-). VOUT_ is approximately zero when VRS - > VRS - + (no phase reversal).", 8 VCC (power) "Supply Voltage"

## MAX4377TASA-T
designator U?
Dual High-Side Current Sense Amplifier, 20 V / V Gain, -40 to 125 degC, 8-Pin SOIC (S8-2), Tape and Reel; PartNumber: MAX4377TASA-T; Bi-Dir. Curr. Sense: No; Gain: 20 V/V, 50 V/V ,100 V/V; Industry Qualified: Automotive - General; DatasheetVersion: Rev. 7; PackageVersion: Rev. D, 10/2012; PackageReference: S8-2; PackageDescription: 8-Pin Small-Outline IC, Narrow (0.15in) (S8-2), Body 4.90 x 3.90 mm, Pitch 1.27 mm; Supplier 1: Mouser; Supplier Part Number 1: N/A; Mounting Technology: Surface Mount; Code_JEDEC: MS012; ComponentLink1Description: Manufacturer URL; ComponentLink1URL: http://www.maximintegrated.com/; ComponentLink2Description: Datasheet; ComponentLink2URL: http://datasheets.maximintegrated.com/en/ds/MAX4376-MAX4378.pdf; ComponentLink3Description: Package Specification; ComponentLink3URL: http://pdfserv.maximintegrated.com/package_dwgs/21-0041.PDF
footprint MAXM-S8-2_N (SOIC, 8-Leads, Body 4.90x3.90mm, Pitch 1.27mm, IPC Medium Density)
footprint MAXM-S8-2_L (SOIC, 8-Leads, Body 4.90x3.90mm, Pitch 1.27mm, IPC High Density)
footprint MAXM-S8-2_M (SOIC, 8-Leads, Body 4.90x3.90mm, Pitch 1.27mm, IPC Low Density)
pins: 1 OUT1 (out) "Output Voltage. VOUT_ is proportional to the magnitude of the sense voltage (VRS+ - VRS-). VOUT_ is approximately zero when VRS - > VRS - + (no phase reversal).", 2 RS1- (in) "Load-side connection to the external sense resistor", 3 RS1+ (in) "Power connection to the external sense resistor", 4 GND (power) "Ground", 5 RS2+ (in) "Power connection to the external sense resistor", 6 RS2- (in) "Load-side connection to the external sense resistor", 7 OUT2 (out) "Output Voltage. VOUT_ is proportional to the magnitude of the sense voltage (VRS+ - VRS-). VOUT_ is approximately zero when VRS - > VRS - + (no phase reversal).", 8 VCC (power) "Supply Voltage"

## MAX4377TAUA
designator U?
Dual High-Side Current Sense Amplifier, 20 V / V Gain, -40 to 125 degC, 8-Pin SOP (U8-1); PartNumber: MAX4377TAUA; Bi-Dir. Curr. Sense: No; Gain: 20 V/V, 50 V/V ,100 V/V; Industry Qualified: Automotive - General; DatasheetVersion: Rev. 7; PackageVersion: Rev. L, 08/2009; PackageReference: U8-1; PackageDescription: 8-Pin Micro-MAX, Thin Shrink Small-Outline (U8-1), Body 3 x 3 mm, Pitch 0.65mm; Supplier 1: Digi-Key; Supplier Part Number 1: MAX4377TAUA-ND; Supplier 2: Mouser; Supplier Part Number 2: 700-MAX4377TAUA-NR; Mounting Technology: Surface Mount; Code_JEDEC: MO-187; ComponentLink1Description: Manufacturer URL; ComponentLink1URL: http://www.maximintegrated.com/; ComponentLink2Description: Datasheet; ComponentLink2URL: http://datasheets.maximintegrated.com/en/ds/MAX4376-MAX4378.pdf; ComponentLink3Description: Package Specification; ComponentLink3URL: http://pdfserv.maximintegrated.com/package_dwgs/21-0036.PDF
footprint MAXM-U8-1_N (SOP, 8-Leads, Body 3x3mm, Pitch 0.65mm, IPC Medium Density)
footprint MAXM-U8-1_L (SOP, 8-Leads, Body 3x3mm, Pitch 0.65mm, IPC High Density)
footprint MAXM-U8-1_M (SOP, 8-Leads, Body 3x3mm, Pitch 0.65mm, IPC Low Density)
pins: 1 OUT1 (out) "Output Voltage. VOUT_ is proportional to the magnitude of the sense voltage (VRS+ - VRS-). VOUT_ is approximately zero when VRS - > VRS - + (no phase reversal).", 2 RS1- (in) "Load-side connection to the external sense resistor", 3 RS1+ (in) "Power connection to the external sense resistor", 4 GND (power) "Ground", 5 RS2+ (in) "Power connection to the external sense resistor", 6 RS2- (in) "Load-side connection to the external sense resistor", 7 OUT2 (out) "Output Voltage. VOUT_ is proportional to the magnitude of the sense voltage (VRS+ - VRS-). VOUT_ is approximately zero when VRS - > VRS - + (no phase reversal).", 8 VCC (power) "Supply Voltage"

## MAX4377TAUA+
designator U?
Dual High-Side Current Sense Amplifier, 20 V / V Gain, -40 to 125 degC, 8-Pin SOP (U8+1), Pb-Free; PartNumber: MAX4377TAUA+; Bi-Dir. Curr. Sense: No; Gain: 20 V/V, 50 V/V ,100 V/V; Industry Qualified: Automotive - General; DatasheetVersion: Rev. 7; PackageVersion: Rev. L, 08/2009; PackageReference: U8+1; PackageDescription: 8-Pin Micro-MAX, Thin Shrink Small-Outline (U8+1), Body 3 x 3 mm, Pitch 0.65 mm; Supplier 1: Digi-Key; Supplier Part Number 1: MAX4377TAUA+-ND; Supplier 2: Mouser; Supplier Part Number 2: 700-MAX4377TAUA; Mounting Technology: Surface Mount; Code_JEDEC: MO-187; ComponentLink1Description: Manufacturer URL; ComponentLink1URL: http://www.maximintegrated.com/; ComponentLink2Description: Datasheet; ComponentLink2URL: http://datasheets.maximintegrated.com/en/ds/MAX4376-MAX4378.pdf; ComponentLink3Description: Package Specification; ComponentLink3URL: http://pdfserv.maximintegrated.com/package_dwgs/21-0036.PDF
footprint MAXM-U8+1_N (SOP, 8-Leads, Body 3x3mm, Pitch 0.65mm, IPC Medium Density)
footprint MAXM-U8+1_L (SOP, 8-Leads, Body 3x3mm, Pitch 0.65mm, IPC High Density)
footprint MAXM-U8+1_M (SOP, 8-Leads, Body 3x3mm, Pitch 0.65mm, IPC Low Density)
pins: 1 OUT1 (out) "Output Voltage. VOUT_ is proportional to the magnitude of the sense voltage (VRS+ - VRS-). VOUT_ is approximately zero when VRS - > VRS - + (no phase reversal).", 2 RS1- (in) "Load-side connection to the external sense resistor", 3 RS1+ (in) "Power connection to the external sense resistor", 4 GND (power) "Ground", 5 RS2+ (in) "Power connection to the external sense resistor", 6 RS2- (in) "Load-side connection to the external sense resistor", 7 OUT2 (out) "Output Voltage. VOUT_ is proportional to the magnitude of the sense voltage (VRS+ - VRS-). VOUT_ is approximately zero when VRS - > VRS - + (no phase reversal).", 8 VCC (power) "Supply Voltage"

## MAX4377TAUA+T
designator U?
Dual High-Side Current Sense Amplifier, 20 V / V Gain, -40 to 125 degC, 8-Pin SOP (U8+1), Pb-Free, Tape and Reel; PartNumber: MAX4377TAUA+T; Bi-Dir. Curr. Sense: No; Gain: 20 V/V, 50 V/V ,100 V/V; Industry Qualified: Automotive - General; DatasheetVersion: Rev. 7; PackageVersion: Rev. L, 08/2009; PackageReference: U8+1; PackageDescription: 8-Pin Micro-MAX, Thin Shrink Small-Outline (U8+1), Body 3 x 3 mm, Pitch 0.65 mm; Supplier 1: Digi-Key; Supplier Part Number 1: MAX4377TAUA+T-ND; Supplier 2: Mouser; Supplier Part Number 2: 700-MAX4377TAUA+T; Mounting Technology: Surface Mount; Code_JEDEC: MO-187; ComponentLink1Description: Manufacturer URL; ComponentLink1URL: http://www.maximintegrated.com/; ComponentLink2Description: Datasheet; ComponentLink2URL: http://datasheets.maximintegrated.com/en/ds/MAX4376-MAX4378.pdf; ComponentLink3Description: Package Specification; ComponentLink3URL: http://pdfserv.maximintegrated.com/package_dwgs/21-0036.PDF
footprint MAXM-U8+1_N (SOP, 8-Leads, Body 3x3mm, Pitch 0.65mm, IPC Medium Density)
footprint MAXM-U8+1_L (SOP, 8-Leads, Body 3x3mm, Pitch 0.65mm, IPC High Density)
footprint MAXM-U8+1_M (SOP, 8-Leads, Body 3x3mm, Pitch 0.65mm, IPC Low Density)
pins: 1 OUT1 (out) "Output Voltage. VOUT_ is proportional to the magnitude of the sense voltage (VRS+ - VRS-). VOUT_ is approximately zero when VRS - > VRS - + (no phase reversal).", 2 RS1- (in) "Load-side connection to the external sense resistor", 3 RS1+ (in) "Power connection to the external sense resistor", 4 GND (power) "Ground", 5 RS2+ (in) "Power connection to the external sense resistor", 6 RS2- (in) "Load-side connection to the external sense resistor", 7 OUT2 (out) "Output Voltage. VOUT_ is proportional to the magnitude of the sense voltage (VRS+ - VRS-). VOUT_ is approximately zero when VRS - > VRS - + (no phase reversal).", 8 VCC (power) "Supply Voltage"

## MAX4377TAUA-T
designator U?
Dual High-Side Current Sense Amplifier, 20 V / V Gain, -40 to 125 degC, 8-Pin SOP (U8-1), Tape and Reel; PartNumber: MAX4377TAUA-T; Bi-Dir. Curr. Sense: No; Gain: 20 V/V, 50 V/V ,100 V/V; Industry Qualified: Automotive - General; DatasheetVersion: Rev. 7; PackageVersion: Rev. L, 08/2009; PackageReference: U8-1; PackageDescription: 8-Pin Micro-MAX, Thin Shrink Small-Outline (U8-1), Body 3 x 3 mm, Pitch 0.65mm; Supplier 1: Digi-Key; Supplier Part Number 1: MAX4377TAUA-T-ND; Supplier 2: Mouser; Supplier Part Number 2: 700-MAX4377TAUA-T-; Mounting Technology: Surface Mount; Code_JEDEC: MO-187; ComponentLink1Description: Manufacturer URL; ComponentLink1URL: http://www.maximintegrated.com/; ComponentLink2Description: Datasheet; ComponentLink2URL: http://datasheets.maximintegrated.com/en/ds/MAX4376-MAX4378.pdf; ComponentLink3Description: Package Specification; ComponentLink3URL: http://pdfserv.maximintegrated.com/package_dwgs/21-0036.PDF
footprint MAXM-U8-1_N (SOP, 8-Leads, Body 3x3mm, Pitch 0.65mm, IPC Medium Density)
footprint MAXM-U8-1_L (SOP, 8-Leads, Body 3x3mm, Pitch 0.65mm, IPC High Density)
footprint MAXM-U8-1_M (SOP, 8-Leads, Body 3x3mm, Pitch 0.65mm, IPC Low Density)
pins: 1 OUT1 (out) "Output Voltage. VOUT_ is proportional to the magnitude of the sense voltage (VRS+ - VRS-). VOUT_ is approximately zero when VRS - > VRS - + (no phase reversal).", 2 RS1- (in) "Load-side connection to the external sense resistor", 3 RS1+ (in) "Power connection to the external sense resistor", 4 GND (power) "Ground", 5 RS2+ (in) "Power connection to the external sense resistor", 6 RS2- (in) "Load-side connection to the external sense resistor", 7 OUT2 (out) "Output Voltage. VOUT_ is proportional to the magnitude of the sense voltage (VRS+ - VRS-). VOUT_ is approximately zero when VRS - > VRS - + (no phase reversal).", 8 VCC (power) "Supply Voltage"

## MAX9610FELT+
designator U?
1 uA, Lithium-Ion Battery, Precision Current-Sense Amplifier, 50 V / V Gain, -40 to 85 degC, 6-Pin SON (L611+1), Pb-Free; PartNumber: MAX9610FELT+; Bi-Dir. Curr. Sense: No; Gain: 25 V/V, 50 V/V ,100 V/V; DatasheetVersion: Rev. 0; PackageVersion: Rev. G, 01/2012; PackageReference: L611+1; PackageDescription: 6-Pin Micro Dual Flatpack No Lead, Body 1 x 1.5 mm, Pitch 0.5 mm; Supplier 1: Mouser; Supplier Part Number 1: N/A; Mounting Technology: Surface Mount; Code_JEDEC: MO-252; ComponentLink1Description: Manufacturer URL; ComponentLink1URL: http://www.maximintegrated.com/; ComponentLink2Description: Datasheet; ComponentLink2URL: http://datasheets.maximintegrated.com/en/ds/MAX9610.pdf; ComponentLink3Description: Package Specification; ComponentLink3URL: http://pdfserv.maximintegrated.com/package_dwgs/21-0147.PDF
footprint MAXM-L611+1_V (SON, 6-Leads, Body 1.5x1mm, Pitch 0.5mm)
pins: 1 GND (power) "Ground", 2 NC "No Connection. Not internally connected.", 3 OUT (out) "Output", 4 RS- (in) "Load-Side Connection to External Sense Resistor", 5 NC "No Connection. Not internally connected.", 6 RS+ (in) "Power-Side Connection to External Sense Resistor"

## MAX9610FELT+T
designator U?
1 uA, Lithium-Ion Battery, Precision Current-Sense Amplifier, 50 V / V Gain, -40 to 85 degC, 6-Pin SON (L611+1), Pb-Free, Tape and Reel; PartNumber: MAX9610FELT+T; Bi-Dir. Curr. Sense: No; Gain: 25 V/V, 50 V/V ,100 V/V; DatasheetVersion: Rev. 0; PackageVersion: Rev. G, 01/2012; PackageReference: L611+1; PackageDescription: 6-Pin Micro Dual Flatpack No Lead, Body 1 x 1.5 mm, Pitch 0.5 mm; Supplier 1: Digi-Key; Supplier Part Number 1: MAX9610FELT+TTR-ND; Supplier 2: Digi-Key; Supplier Part Number 2: MAX9610FELT+TCT-ND; Supplier 3: Digi-Key; Supplier Part Number 3: MAX9610FELT+TDKR-ND; Supplier 4: Mouser; Supplier Part Number 4: 700-MAX9610FELT+T; Mounting Technology: Surface Mount; Code_JEDEC: MO-252; ComponentLink1Description: Manufacturer URL; ComponentLink1URL: http://www.maximintegrated.com/; ComponentLink2Description: Datasheet; ComponentLink2URL: http://datasheets.maximintegrated.com/en/ds/MAX9610.pdf; ComponentLink3Description: Package Specification; ComponentLink3URL: http://pdfserv.maximintegrated.com/package_dwgs/21-0147.PDF
footprint MAXM-L611+1_V (SON, 6-Leads, Body 1.5x1mm, Pitch 0.5mm)
pins: 1 GND (power) "Ground", 2 NC "No Connection. Not internally connected.", 3 OUT (out) "Output", 4 RS- (in) "Load-Side Connection to External Sense Resistor", 5 NC "No Connection. Not internally connected.", 6 RS+ (in) "Power-Side Connection to External Sense Resistor"

## MAX9610FEXK+
designator U?
1 uA, Lithium-Ion Battery, Precision Current-Sense Amplifier, 50 V / V Gain, -40 to 85 degC, 5-Pin SOT23 (X5+1), Pb-Free; PartNumber: MAX9610FEXK+; Bi-Dir. Curr. Sense: No; Gain: 25 V/V, 50 V/V ,100 V/V; DatasheetVersion: Rev. 0; PackageVersion: Rev. F, 06/2011; PackageReference: X5+1; PackageDescription: 5-Pin SC70 Transistor Package (X5+1), Body 2 x 1.25 mm, Pitch 0.65 mm; Supplier 1: Mouser; Supplier Part Number 1: N/A; Mounting Technology: Surface Mount; Code_JEDEC: MO-203; ComponentLink1Description: Manufacturer URL; ComponentLink1URL: http://www.maximintegrated.com/; ComponentLink2Description: Datasheet; ComponentLink2URL: http://datasheets.maximintegrated.com/en/ds/MAX9610.pdf; ComponentLink3Description: Package Specification; ComponentLink3URL: http://pdfserv.maximintegrated.com/package_dwgs/21-0076.PDF
footprint MAXM-X5+1_N (SOT23, 5-Leads, Body 2x1.25mm, Pitch 0.65mm, IPC Medium Density)
footprint MAXM-X5+1_L (SOT23, 5-Leads, Body 2x1.25mm, Pitch 0.65mm, IPC High Density)
footprint MAXM-X5+1_M (SOT23, 5-Leads, Body 2x1.25mm, Pitch 0.65mm, IPC Low Density)
pins: 1 GND (power) "Ground", 2 GND (power) "Ground", 3 OUT (out) "Output", 4 RS- (in) "Load- Side Connection to External Sense Resistor", 5 RS+ (in) "Power-Side Connection to External Sense Resistor"